# Altium footprint library 2425755-1.PcbLib: 1 footprints
Each footprint in its own frame and in the unit in brackets; x right, y up, seen from the top. Pads: shape width x height; smd on the part's side, far side on the other; paste and mask are expansions set on the pad; w line width, h text height; cw(c..) or ccw(c..) is an arc to the next point about the centre after c.
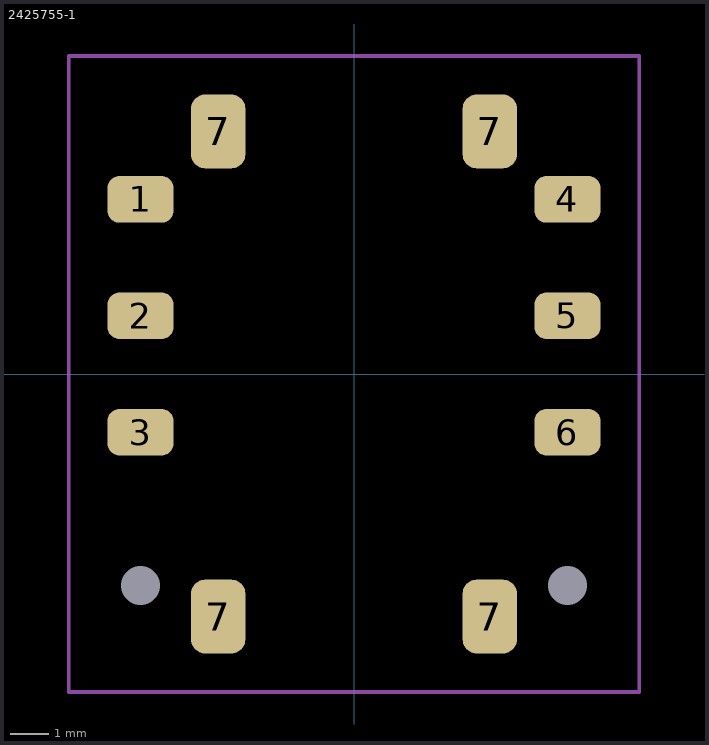
[diagram p0: the footprint, top view; thin cyan lines are the x and y axes]

## 2425755-1 [mm]
pads (12):
  round 0 hole 1 unplated: 0(-5.5,-5.45) 0(5.5,-5.45)
  rrect50% 1.7x1.2 smd: 1(-5.5,4.5) 2(-5.5,1.5) 3(-5.5,-1.5) 4(5.5,4.5) 5(5.5,1.5) 6(5.5,-1.5)
  rrect50% 1.4x1.9 smd: 7(-3.5,-6.25) 7(-3.5,6.25) 7(3.5,-6.25) 7(3.5,6.25)
Top Courtyard:
  lines w0.1: -7.35,-8.2 -3.5,-8.2 7.35,-8.2 7.35,8.2 -7.35,8.2 -7.35,-8.2
3D body "c-2425755-1-a-3d.stp": height 7.45, standoff -0.5, extent -6.294,-6.25 6.294,6.25